# Altium integrated library MCP2562.IntLib: 1 symbol
Pins are listed as number, name and electrical type; pins without a type are passive.

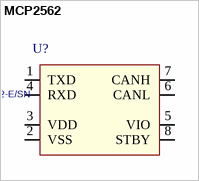
[diagram p0: symbol MCP2562]

## MCP2562
designator U?, comment MCP2562-E/SN
PDF: http://www.microchip.com/mymicrochip/filehandler.aspx?ddocname=en561044; PRICE: 1.08000; BUY_LINK: http://www.digikey.com/product-detail/en/MCP2562-E%2FSN/MCP2562-E%2FSN-ND/4079967; ID: MCP2562-E/SN
footprint SO8
pins: 1 TXD, 2 VSS, 3 VDD, 4 RXD, 5 VIO, 6 CANL, 7 CANH, 8 STBY